# Altium schematic symbol library Si5503.SchLib: 1 symbol
Pins are listed as number, name and electrical type; pins without a type are passive.

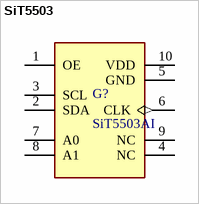
[diagram p0: symbol SiT5503]

## SiT5503
designator G?, comment SiT5503AI
Stratum 3E MEMS precision oscillator optimized for ±5 ppb stability from -40°C to 95°C.; MF: SiTime; Потребление, Вт: 0.17; Value: *; MP: SiT5503; Datasheet: https://www.sitime.com/support/resource-library/datasheets/sit5503-datasheet; Назначение: Precision oscillator; Наименование: SiT5503AI
footprint 10L CQFN
pins: 1 OE (power), 2 SDA, 3 SCL, 4 NC (power), 5 GND, 6 CLK (out), 7 A0, 8 A1, 9 NC (power), 10 VDD